# Altium footprint library 130020900#NIP_PD_电路板印制板.PcbLib: 105 footprints (part 6 of 7)
Each footprint in its own frame and in the unit in brackets; x right, y up, seen from the top. Pads: shape width x height; smd on the part's side, far side on the other; paste and mask are expansions set on the pad; w line width, h text height; cw(c..) or ccw(c..) is an arc to the next point about the centre after c.
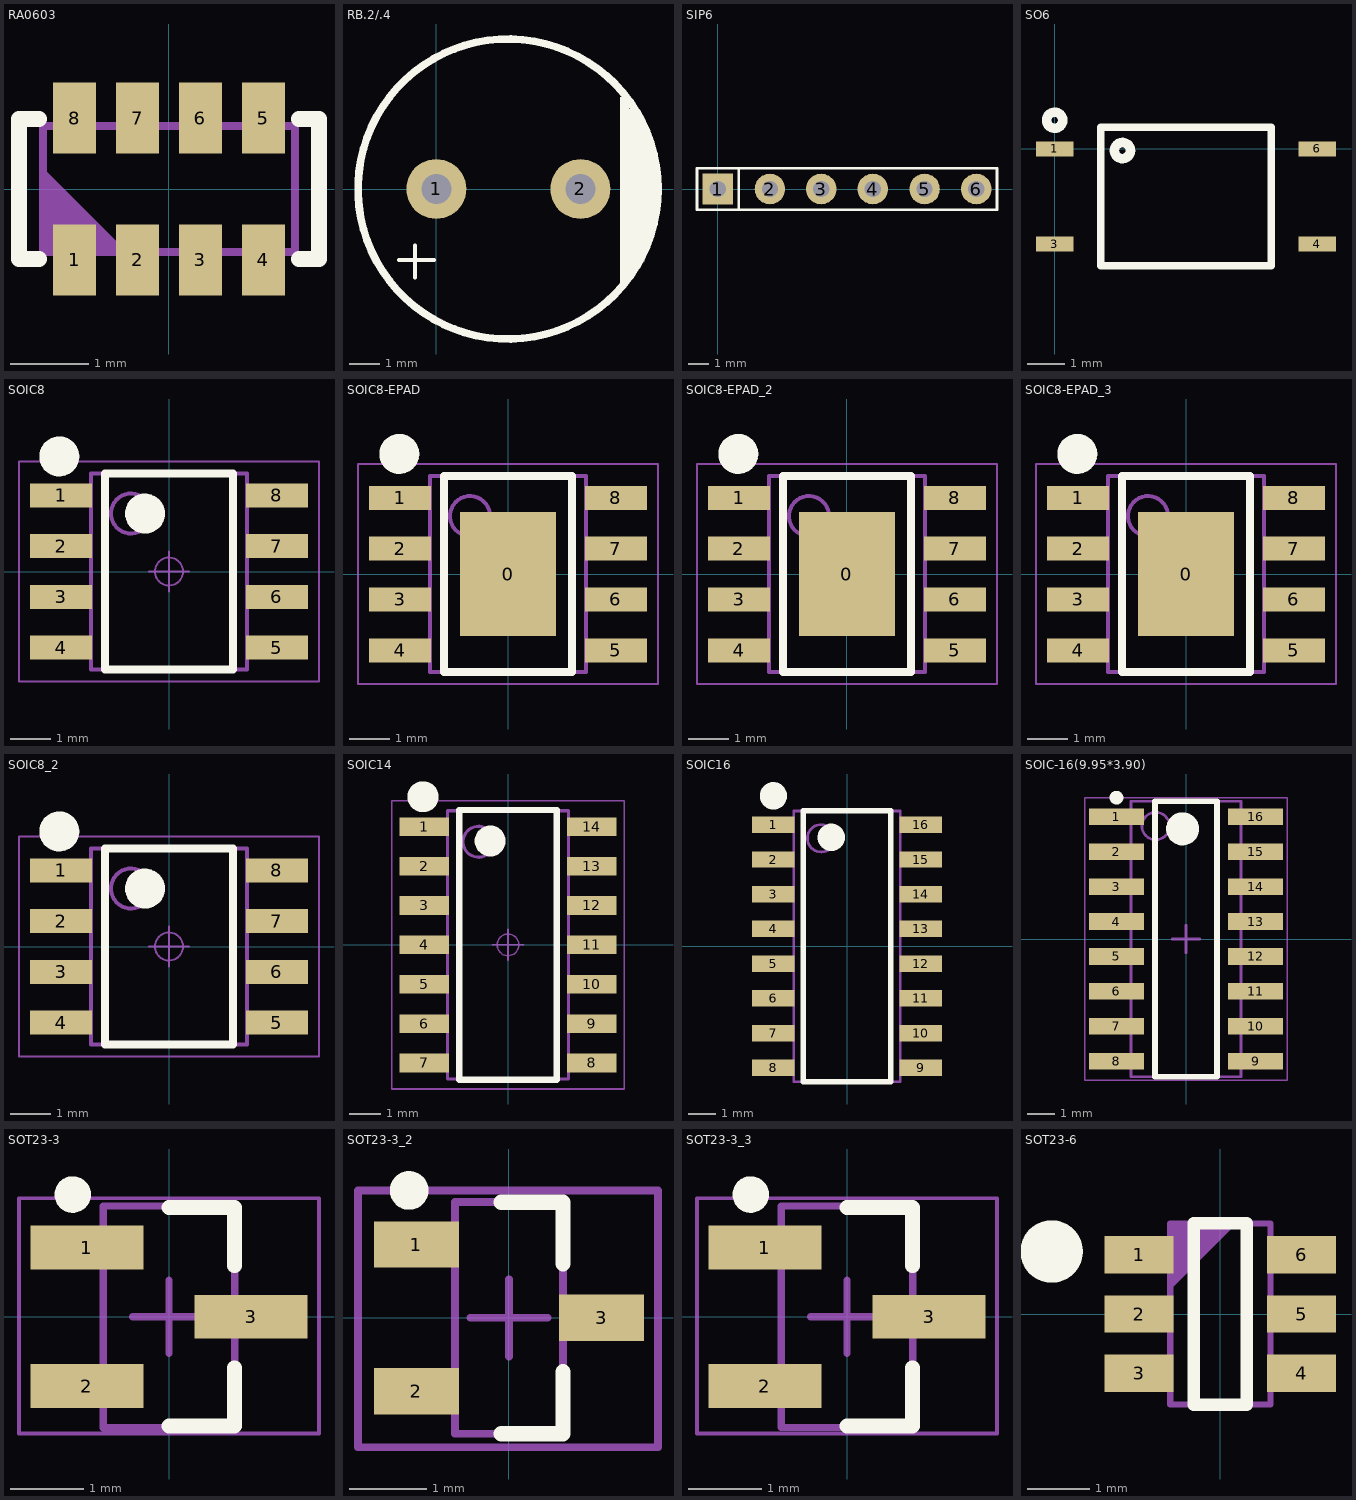
[diagram p5: the footprints below, top view; thin cyan lines are the x and y axes]

## RA0603 [mm]
pads (8):
  rect 0.55x0.9 smd: 1(-1.2,-0.9) 2(-0.4,-0.9) 3(0.4,-0.9) 4(1.2,-0.9) 5(1.2,0.9) 6(0.4,0.9) 7(-0.4,0.9) 8(-1.2,0.9)
Top Overlay:
  lines w0.2: -1.651,-0.889 -1.905,-0.889 -1.905,0.889 -1.651,0.889 ; 1.651,-0.889 1.905,-0.889 1.905,0.889 1.651,0.889
Mechanical 15:
  lines w0.1: -1.6,-0.7 -1.5,-0.8 ; -1.6,-0.6 -1.4,-0.8 ; -1.6,-0.5 -1.3,-0.8 ; -1.6,-0.4 -1.2,-0.8 ; -1.6,-0.3 -1.1,-0.8 ; -1.6,-0.2 -1,-0.8 ; -1.6,-0.1 -0.9,-0.8 ; -1.6,0 -0.8,-0.8 ; -1.6,0.1 -0.7,-0.8 ; -1.6,0.2 -0.6,-0.8 ; -1.6,-0.8 1.6,-0.8 1.6,0.8 -1.6,0.8 -1.6,-0.8

## RB.2/.4 [mm]
pads (2):
  round 2 hole 1: 1(0,0) 2(4.801,0)
Top Overlay:
  circle w0.254: c2.388,0 r5
  rectangle: 6.404,-2.416 6.938,-1.299
  rectangle: 6.633,-1.35 7.344,1.038
  rectangle: 6.125,-3.331 6.176,-3.077
  rectangle: 6.735,-1.756 7.141,1.952
  rectangle: 6.506,-1.578 6.862,2.333
  rectangle: 6.404,-2.798 6.658,2.663
  rectangle: 6.125,-3.077 6.43,3.07
  lines w0.127: -1.245,-2.362 -0.076,-2.362 ; -0.711,-2.946 -0.711,-1.88

## SIP6 [mm]
pads (6):
  rect 1.5x1.5 hole 0.8: 1(0,0)
  round 1.5 hole 0.8: 2(2.565,0) 3(5.08,0) 4(7.62,0) 5(10.16,0) 6(12.7,0)
Top Overlay:
  lines w0.127: 1.041,-1.016 1.041,1.016 ; -1.016,-1.016 -1.016,1.016 13.716,1.016 13.716,-1.016 -1.016,-1.016

## SO6 [mm]
pads (4):
  rect 1x0.4 smd: 1(0,0) 3(0,-2.54) 4(7,-2.54) 6(7,0)
Top Overlay:
  circle w0.254: c1.804,-0.044 r0.216
  circle w0.254: c-0.002,0.764 r0.216
  lines w0.2: 1.225,-3.118 1.225,0.582 5.775,0.582 5.775,-3.118 1.225,-3.118

## SOIC8 [mm]
pads (8):
  rect 1.55x0.6 smd: 1(-2.7,1.905) 2(-2.7,0.635) 3(-2.7,-0.635) 4(-2.7,-1.905) 5(2.7,-1.905) 6(2.7,-0.635) 7(2.7,0.635) 8(2.7,1.905)
Top Overlay:
  circle w0.5: c-0.6,1.45 r0.25
  circle w0.5: c-2.743,2.877 r0.25
  lines w0.2: -1.6,-2.45 1.6,-2.45 1.6,2.45 -1.6,2.45 -1.6,-2.45
Mechanical 15:
  circle w0.1: c-0.95,1.45 r0.5
  lines w0.1: -1.95,-2.45 1.95,-2.45 1.95,2.45 -1.95,2.45 -1.95,-2.45
Mechanical 16:
  circle w0.05: c0,0 r0.35
  lines w0.05: -0.5,0 0.5,0 ; 0,-0.5 0,0.5 ; -3.75,-2.75 -3.75,2.75 3.75,2.75 3.75,-2.75 -3.75,-2.75

## SOIC8-EPAD [mm]
height 1.6
pads (9):
  rect 2.41x3.1 smd: 0(0,0)
  rect 1.55x0.6 smd: 1(-2.7,1.905) 2(-2.7,0.635) 3(-2.7,-0.635) 4(-2.7,-1.905) 5(2.7,-1.905) 6(2.7,-0.635) 7(2.7,0.635) 8(2.7,1.905)
Top Overlay:
  circle w0.5: c-2.717,3.004 r0.25
  lines w0.2: -1.6,-2.45 1.6,-2.45 1.6,2.45 -1.6,2.45 -1.6,-2.45
Mechanical 15:
  circle w0.1: c-0.95,1.45 r0.5
  lines w0.1: -1.95,-2.45 1.95,-2.45 1.95,2.45 -1.95,2.45 -1.95,-2.45
Mechanical 16:
  circle w0.05: c0,0 r0.35
  lines w0.05: -0.5,0 0.5,0 ; 0,-0.5 0,0.5 ; -3.75,-2.75 -3.75,2.75 3.75,2.75 3.75,-2.75 -3.75,-2.75

## SOIC8-EPAD_2 [mm]
pads (9):
  rect 2.41x3.1 smd: 0(0,0)
  rect 1.55x0.6 smd: 1(-2.7,1.905) 2(-2.7,0.635) 3(-2.7,-0.635) 4(-2.7,-1.905) 5(2.7,-1.905) 6(2.7,-0.635) 7(2.7,0.635) 8(2.7,1.905)
Top Overlay:
  circle w0.5: c-2.717,3.004 r0.25
  lines w0.2: -1.6,-2.45 -1.6,2.45 1.6,2.45 1.6,-2.45 -1.6,-2.45
Mechanical 15:
  circle w0.1: c-0.95,1.45 r0.5
  lines w0.1: -1.95,-2.45 -1.95,2.45 1.95,2.45 1.95,-2.45 -1.95,-2.45
Mechanical 16:
  circle w0.05: c0,0 r0.35
  lines w0.05: -0.5,0 0.5,0 ; 0,-0.5 0,0.5 ; -3.75,-2.75 3.75,-2.75 3.75,2.75 -3.75,2.75 -3.75,-2.75

## SOIC8-EPAD_3 [mm]
pads (9):
  rect 2.41x3.1 smd: 0(0,0)
  rect 1.55x0.6 smd: 1(-2.7,1.905) 2(-2.7,0.635) 3(-2.7,-0.635) 4(-2.7,-1.905) 5(2.7,-1.905) 6(2.7,-0.635) 7(2.7,0.635) 8(2.7,1.905)
Top Overlay:
  circle w0.5: c-2.717,3.004 r0.25
  lines w0.2: -1.6,-2.45 1.6,-2.45 1.6,2.45 -1.6,2.45 -1.6,-2.45
Mechanical 15:
  circle w0.1: c-0.95,1.45 r0.5
  lines w0.1: -1.95,-2.45 1.95,-2.45 1.95,2.45 -1.95,2.45 -1.95,-2.45
Mechanical 16:
  circle w0.05: c0,0 r0.35
  lines w0.05: -0.5,0 0.5,0 ; 0,-0.5 0,0.5 ; -3.75,-2.75 -3.75,2.75 3.75,2.75 3.75,-2.75 -3.75,-2.75

## SOIC8_2 [mm]
pads (8):
  rect 1.55x0.6 smd: 1(-2.7,1.905) 2(-2.7,0.635) 3(-2.7,-0.635) 4(-2.7,-1.905) 5(2.7,-1.905) 6(2.7,-0.635) 7(2.7,0.635) 8(2.7,1.905)
Top Overlay:
  circle w0.5: c-2.743,2.877 r0.25
  circle w0.5: c-0.6,1.45 r0.25
  lines w0.2: -1.6,-2.45 -1.6,2.45 1.6,2.45 1.6,-2.45 -1.6,-2.45
Mechanical 15:
  circle w0.1: c-0.95,1.45 r0.5
  lines w0.1: -1.95,-2.45 -1.95,2.45 1.95,2.45 1.95,-2.45 -1.95,-2.45
Mechanical 16:
  circle w0.05: c0,0 r0.35
  lines w0.05: -0.5,0 0.5,0 ; 0,-0.5 0,0.5 ; -3.75,-2.75 3.75,-2.75 3.75,2.75 -3.75,2.75 -3.75,-2.75

## SOIC14 [mm]
height 0.762
pads (14):
  rect 1.6x0.6 smd: 1(-2.7,3.81) 2(-2.7,2.54) 3(-2.7,1.27) 4(-2.7,0) 5(-2.7,-1.27) 6(-2.7,-2.54) 7(-2.7,-3.81) 8(2.7,-3.81) 9(2.7,-2.54) 10(2.7,-1.27) 11(2.7,0) 12(2.7,1.27) 13(2.7,2.54) 14(2.7,3.81)
Top Overlay:
  circle w0.5: c-0.575,3.35 r0.25
  circle w0.5: c-2.742,4.777 r0.25
  lines w0.2: -1.575,-4.35 1.575,-4.35 1.575,4.35 -1.575,4.35 -1.575,-4.35
Mechanical 15:
  circle w0.1: c-0.95,3.325 r0.5
  lines w0.1: -1.95,-4.325 1.95,-4.325 1.95,4.325 -1.95,4.325 -1.95,-4.325
Mechanical 16:
  circle w0.05: c0,0 r0.35
  lines w0.05: -0.5,0 0.5,0 ; 0,-0.5 0,0.5 ; -3.75,-4.65 -3.75,4.65 3.75,4.65 3.75,-4.65 -3.75,-4.65

## SOIC16 [mm]
pads (16):
  rect 1.55x0.6 smd: 1(-2.7,4.445) 2(-2.7,3.175) 3(-2.7,1.905) 4(-2.7,0.635) 5(-2.7,-0.635) 6(-2.7,-1.905) 7(-2.7,-3.175) 8(-2.7,-4.445) 9(2.7,-4.445) 10(2.7,-3.175) 11(2.7,-1.905) 12(2.7,-0.635) 13(2.7,0.635) 14(2.7,1.905) 15(2.7,3.175) 16(2.7,4.445)
Top Overlay:
  circle w0.5: c-2.692,5.504 r0.25
  circle w0.5: c-0.575,3.985 r0.25
  lines w0.2: -1.6,-4.95 1.6,-4.95 1.6,4.95 -1.6,4.95 -1.6,-4.95
Mechanical 15:
  circle w0.1: c-0.95,3.95 r0.5
  lines w0.1: -1.95,-4.95 1.95,-4.95 1.95,4.95 -1.95,4.95 -1.95,-4.95

## SOIC-16(9.95*3.90) [mm] "SOIC, 16-Leads, Body 9.95x3.90mm, Pitch 1.27mm, IPC Medium Density"
height 1.72
pads (16):
  rect 2x0.6 smd: 1(-2.525,4.445) 2(-2.525,3.175) 3(-2.525,1.905) 4(-2.525,0.635) 5(-2.525,-0.635) 6(-2.525,-1.905) 7(-2.525,-3.175) 8(-2.525,-4.445) 9(2.525,-4.445) 10(2.525,-3.175) 11(2.525,-1.905) 12(2.525,-0.635) 13(2.525,0.635) 14(2.525,1.905) 15(2.525,3.175) 16(2.525,4.445)
Top Overlay:
  circle w0.25: c-2.525,5.131 r0.125
  circle w0.6: c-0.125,4 r0.3
  lines w0.203: -1.125,-5 -1.125,5 1.125,5 1.125,-5 -1.125,-5
Mechanical 13:
  circle w0.1: c-1.1,4.1 r0.5
  lines w0.1: -2,-5 -2,5 2,5 2,-5 -2,-5
Mechanical 15:
  lines w0.05: -3.683,-5.131 -3.683,5.131 3.683,5.131 3.683,-5.131 -3.683,-5.131
  lines w0.1: -0.5,0 0.5,0 ; 0,-0.5 0,0.5
3D body: height 1.72, standoff 0.1, extent -2,-5 2,5

## SOT23-3 [mm] "SOT23, 3-Leads, Body 2.92x2.78mm, Pitch 0.95mm, IPC Medium Density"
height 1.25
pads (3):
  rect 1.55x0.6 smd: 1(-1.125,0.95) 2(-1.125,-0.95) 3(1.125,0)
Top Overlay:
  circle w0.25: c-1.321,1.676 r0.125
  lines w0.203: 0,-1.5 0.9,-1.5 0.9,-0.7 ; 0,1.5 0.9,1.5 0.9,0.7
Mechanical 13:
  lines w0.1: -0.9,-1.52 0.9,-1.52 0.9,1.52 -0.9,1.52 -0.9,-1.52
Mechanical 15:
  lines w0.05: -2.057,-1.6 2.057,-1.6 2.057,1.626 -2.057,1.626 -2.057,-1.6
  lines w0.1: -0.5,0 0.5,0 ; 0,-0.5 0,0.5
  text "S-E" at -1.905,-0.457 h0.51
  text "G-B" at -0.127,0.762 h0.51
  text "D-C" at 0.381,-1.016 h0.51
3D body: height 1.25, standoff 0.05, extent -0.9,-1.52 0.9,1.52

## SOT23-3_2 [mm]
pads (3):
  rect 1.1x0.6 smd: 1(-1.2,0.95) 2(-1.2,-0.95) 3(1.2,0)
Top Overlay:
  circle w0.25: c-1.293,1.651 r0.125
  lines w0.2: -0.1,-1.5 0.7,-1.5 0.7,-0.7 ; -0.1,1.5 0.7,1.5 0.7,0.7
Mechanical 13:
  lines w0.1: -0.7,-1.5 0.7,-1.5 0.7,1.5 -0.7,1.5 -0.7,-1.5
Mechanical 15:
  lines w0.1: -0.5,0 0.5,0 ; 0,-0.5 0,0.5 ; -1.956,-1.676 1.93,-1.676 1.93,1.651 -1.956,1.651 -1.956,-1.676
  text "D-C" at 0.362,-0.991 h0.51
  text "G-B" at -0.146,0.787 h0.51
  text "S-E" at -1.924,-0.432 h0.51
3D body: height 1.1, standoff 0, extent -0.7,-1.5 0.7,1.5

## SOT23-3_3 [mm]
pads (3):
  rect 1.55x0.6 smd: 1(-1.125,0.95) 2(-1.125,-0.95) 3(1.125,0)
Top Overlay:
  circle w0.25: c-1.321,1.676 r0.125
  lines w0.203: 0,-1.5 0.9,-1.5 0.9,-0.7 ; 0,1.5 0.9,1.5 0.9,0.7
Mechanical 13:
  lines w0.1: -0.9,-1.52 0.9,-1.52 0.9,1.52 -0.9,1.52 -0.9,-1.52
Mechanical 15:
  lines w0.05: -2.057,-1.6 2.057,-1.6 2.057,1.626 -2.057,1.626 -2.057,-1.6
  lines w0.1: -0.5,0 0.5,0 ; 0,-0.5 0,0.5
  text "S-E" at -1.905,-0.457 h0.51
  text "G-B" at -0.127,0.762 h0.51
  text "D-C" at 0.381,-1.016 h0.51
3D body: height 1.25, standoff 0.05, extent -0.9,-1.52 0.9,1.52

## SOT23-6 [mm]
pads (6):
  rect 1.1x0.6 smd: 1(-1.3,0.95) 2(-1.3,0) 3(-1.3,-0.95) 4(1.3,-0.95) 5(1.3,0) 6(1.3,0.95)
Top Overlay:
  circle w0.5: c-2.7,1 r0.25
  lines w0.2: -0.425,-1.45 0.425,-1.45 0.425,1.45 -0.425,1.45 -0.425,-1.45
Mechanical 15:
  lines w0.1: -0.8,0.45 0.2,1.45 ; -0.8,0.55 0.1,1.45 ; -0.8,0.65 0,1.45 ; -0.8,0.75 -0.1,1.45 ; -0.8,0.85 -0.2,1.45 ; -0.8,0.95 -0.3,1.45 ; -0.8,1.05 -0.4,1.45 ; -0.8,1.15 -0.5,1.45 ; -0.8,1.25 -0.6,1.45 ; -0.8,1.35 -0.7,1.45 ; -0.8,-1.45 0.8,-1.45 0.8,1.45 -0.8,1.45 -0.8,-1.45